# Altium schematic symbol library OWMR.SchLib: 18 symbols
Pins are listed as number, name and electrical type; pins without a type are passive.

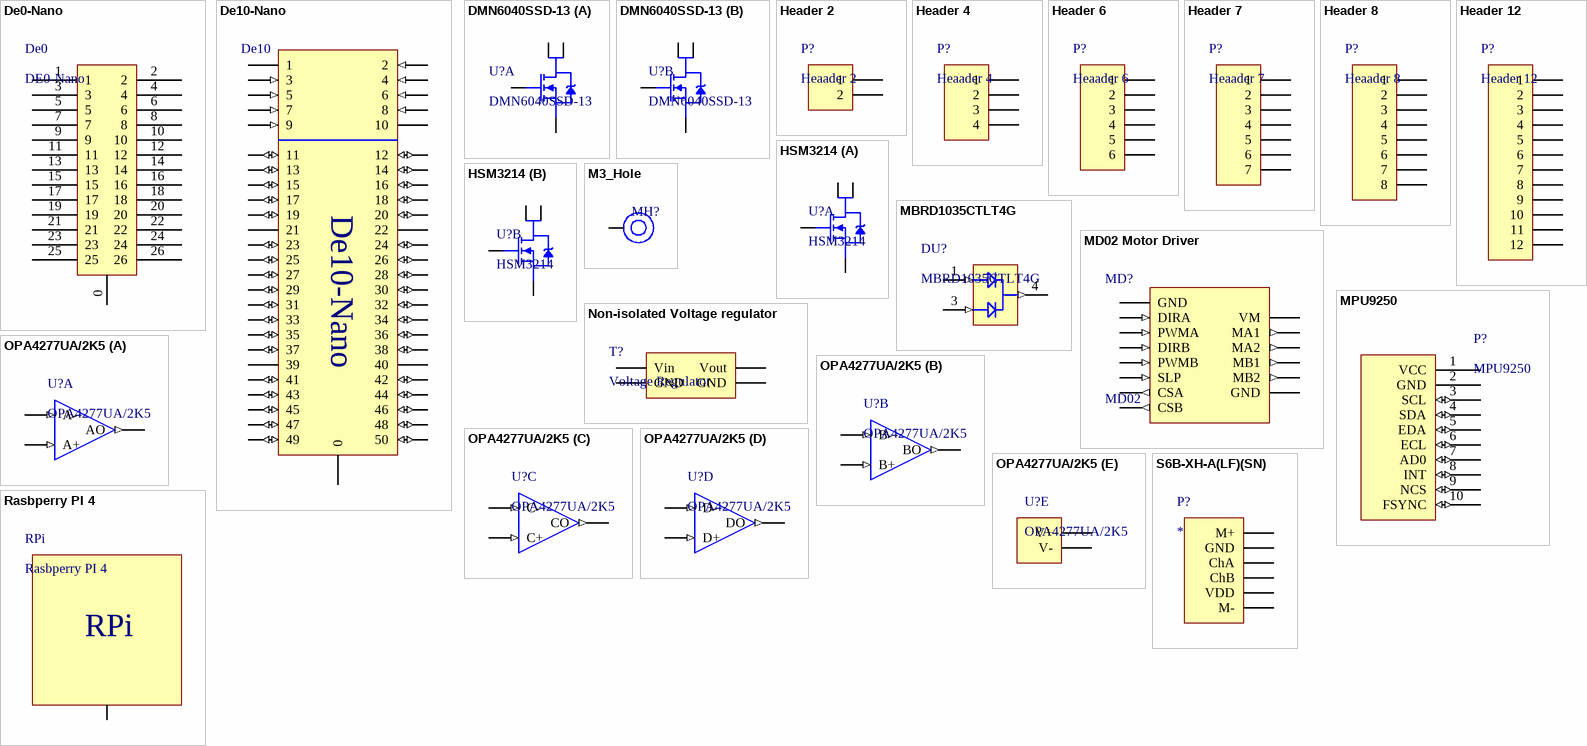
[diagram p0: symbols De0-Nano to S6B-XH-A(LF)(SN)]

## De0-Nano
designator De0, comment DE0-Nano
footprint DE0-Nano
pins: 0 "Screw Hole", 1, 2, 3, 4, 5, 6, 7, 8, 9, 10, 11, 12, 13, 14, 15, 16, 17, 18, 19, 20, 21, 22, 23, 24, 25, 26

## De10-Nano
designator De10
De10-Nano
footprint De10-Nano
pins: 0 (power), 1 (power), 2 (in), 3 (in), 4 (in), 5 (in), 6 (in), 7 (in), 8 (in), 9 (in), 10 (power), 11 (io), 12 (io), 13 (io), 14 (io), 15 (io), 16 (io), 17 (io), 18 (io), 19 (io), 20 (io), 21 (power), 22 (power), 23 (io), 24 (io), 25 (io), 26 (io), 27 (io), 28 (io), 29 (io), 30 (io), 31 (io), 32 (io), 33 (io), 34 (io), 35 (io), 36 (io), 37 (io), 38 (io), 39 (power), 40 (power), 41 (io), 42 (io), 43 (io), 44 (io), 45 (io), 46 (io), 47 (io), 48 (io), 49 (io), 50 (io)

## DMN6040SSD-13
designator U?
60V 5A 1.3W 40mΩ@10V,4.5A 3V@250μA 2 N-Channel SOIC-8_150mil  MOSFETs ROHS
footprint DMN6040SSD-13 (60V 5A 1.3W 40mΩ@10V,4.5A 3V@250μA 2 N-Channel SOIC-8_150mil MOSFETs ROHS)
part A pins: 1 S1, 2 G1, 5 D1, 6 D1
part B pins: 3 S2, 4 G2, 7 D2, 8 D2

## Header 2
designator P?, comment Heaader 2
KH-2.54FH-1X2P-H8.5 / 2.54mm 3A -40℃~+105℃ Straight 1x2P 8.5mm Top 2 1 Square Holes Plugin,P=2.54mm  Female Headers ROHS / ----- / KH-2.54PH180-1X2P-L11.5 / 3A Straight Square Pins 2.5mm 6mm -40℃~+105℃ 1 2 3mm 2.54mm Black 1x2P Plugin,P=2.54mm  Pin Headers ROHS
footprint KH-2.54FH-1X2P-H8.5 (1x2P Female Headers)
footprint KH-2.54FH-1X2P-H8.5 (Pad Linked) (Two Pad Linked, 1x2P Female Headers)
footprint KH-2.54PH180-1X2P-L11.5 (1x2P Pin Headers)
footprint KH-2.54PH180-1X2P-L11.5 (Pad Linked) (Two Pad linked, 1x2P Pin Headers)
pins: 1, 2

## Header 4
designator P?, comment Heaader 4
KH-2.54FH-1X4P-H8.5 / 2.54mm 3A -40℃~+105℃ Straight 1x4P 8.5mm Top 4 1 Square Holes Plugin,P=2.54mm  Female Headers ROHS / ----- / KH-2.54PH180-1X4P-L11.5 / 3A Straight Square Pins 2.5mm 6mm -40℃~+105℃ 1 4 3mm 2.54mm Black 1x4P Plugin,P=2.54mm  Pin Headers ROHS
footprint KH-2.54FH-1X4P-H8.5 (1x4P Female Headers)
footprint KH-2.54FH-1X4P-H8.5 (Pad Linked) (Two Pad Linked, 1x4P Female Headers)
footprint KH-2.54PH180-1X4P-L11.5 (1x4P Pin Headers)
footprint KH-2.54PH180-1X4P-L11.5 (Pad Linked) (Two Pad linked, 1x4P Pin Headers)
pins: 1, 2, 3, 4

## Header 6
designator P?, comment Heaader 6
KH-2.54FH-1X6P-H8.5 / 2.54mm 3A -40℃~+105℃ Straight 1x6P 8.5mm Top 6 1 Square Holes Plugin,P=2.54mm  Female Headers ROHS / ----- / KH-2.54PH180-1X6P-L11.5 / 3A Straight Square Pins 2.5mm 6mm -40℃~+105℃ 1 6 3mm 2.54mm Black 1x6P Plugin,P=2.54mm  Pin Headers ROHS
footprint KH-2.54FH-1X6P-H8.5 (1x6P Female Headers)
footprint KH-2.54FH-1X6P-H8.5 (Pad Linked) (Two Pad Linked, 1x6P Female Headers)
footprint KH-2.54PH180-1X6P-L11.5 (1x6P Pin Headers)
footprint KH-2.54PH180-1X6P-L11.5 (Pad Linked) (Two Pad linked, 1x6P Pin Headers)
pins: 1, 2, 3, 4, 5, 6

## Header 7
designator P?, comment Heaader 7
KH-2.54FH-1X7P-H8.5 / 2.54mm 3A -40℃~+105℃ Straight 1x7P 8.5mm Top 7 1 Square Holes Plugin,P=2.54mm  Female Headers ROHS / ----- / KH-2.54PH180-1X7P-L11.5 / 3A Straight Square Pins 2.5mm 6mm -40℃~+105℃ 1 7 3mm 2.54mm Black 1x7P Plugin,P=2.54mm  Pin Headers ROHS
footprint KH-2.54FH-1X7P-H8.5 (1x7P Female Headers)
footprint KH-2.54PH180-1X7P-L11.5 (1x7P Pin Headers)
pins: 1, 2, 3, 4, 5, 6, 7

## Header 8
designator P?, comment Heaader 8
KH-2.54FH-1X8P-H8.5 / 2.54mm 3A -40℃~+105℃ Straight 1x8P 8.5mm Top 8 1 Square Holes Plugin,P=2.54mm  Female Headers ROHS / ----- / KH-2.54PH180-1X8P-L11.5 / 3A Straight Square Pins 2.5mm 6mm -40℃~+105℃ 1 8 3mm 2.54mm Black 1x8P Plugin,P=2.54mm  Pin Headers ROHS
footprint KH-2.54FH-1X8P-H8.5 (1x8P Female Headers)
footprint KH-2.54PH180-1X8P-L11.5 (1x8P Pin Headers)
footprint KH-2.54FH-1X8P-H8.5 (Pad Linked) (Two Pad Linked, 1x8P Female Headers)
footprint KH-2.54PH180-1X8P-L11.5 (Pad Linked) (Two Pad linked, 1x8 Pin Headers)
pins: 1, 2, 3, 4, 5, 6, 7, 8

## Header 12
designator P?
KH-2.54FH-1X12P-H8.5 / 2.54mm 3A -40℃~+105℃ Straight 1x12P 8.5mm Top 12 1 Square Holes Plugin,P=2.54mm  Female Headers ROHS / ----- / KH-2.54PH180-1X8P-L11.5 / 3A Straight Square Pins 2.5mm 6mm -40℃~+105℃ 1 12 3mm 2.54mm Black 1x12P Plugin,P=2.54mm  Pin Headers ROHS
footprint KH-2.54FH-1X12P-H8.5 (1x12P Female Headers)
footprint KH-2.54PH180-1X12P-L11.5 (1x12P Pin Headers)
footprint KH-2.54PH180-1X12P-L11.5 (Pad Linked) (Two Pad Linked, 1x12P Pin Headers)
footprint KH-2.54FH-1X12P-H8.5 (Pad Linked) (Two Pad Linked, 1x12P Female Headers)
pins: 1, 2, 3, 4, 5, 6, 7, 8, 9, 10, 11, 12

## HSM3214
designator U?
30V 10A 12mΩ@10V,8A 1.5W 2.5V@250μA 2 N-Channel SOP-8  MOSFETs ROHS
footprint HSM3214 (30V 10A 12mΩ@10V,8A 1.5W 2.5V@250μA 2 N-Channel SOP-8  MOSFETs ROHS)
part A pins: 1 S1, 2 G1, 7 D1, 8 D1
part B pins: 3 S1, 4 G1, 5 D1, 6 D1

## M3_Hole
designator MH?, comment M3 Hole  (value not drawn)
footprint M3 Hole
pins: 1

## MBRD1035CTLT4G
designator DU?
35V 470mV@5A 5A TO-252-2(DPAK) Schottky Barrier Diodes (SBD) ROHS; buy_link: https://www.ruten.com.tw/item/show?21744290003226; datasheet: https://datasheet.ciiva.com/905/mbrd1035ctl-d-905952.pdf?src-supplier=Digi-Key
footprint MBRD1035CTLT4G (35V 5A 2Channel Diode IC)
pins: 1 (in), 3 (in), 4 (out)

## MD02 Motor Driver
designator MD?, comment MD02
MD02 17A 2 cheel motor driver; buy_link: https://www.ruten.com.tw/item/show?21811773783671
footprint MD02 (MD02_17A_Motor_Driver)
pins: 1 GND (power), 2 DIRA (in), 3 PWMA (in), 4 DIRB (in), 5 PWMB (in), 6 SLP (in), 7 CSA (out), 8 CSB (out), 9 VM (power), 10 MA1 (out), 11 MA2 (out), 12 MB1 (out), 13 MB2 (out), 14 GND

## MPU9250
designator P?
3 axis gyro, acceleration, magmetic
footprint MPU9250
pins: 1 VCC (power), 2 GND (power), 3 SCL (io), 4 SDA (io), 5 EDA (io), 6 ECL (io), 7 AD0 (io), 8 INT (io), 9 NCS (io), 10 FSYNC (io)

## Non-isolated Voltage regulator
designator T?, comment Voltage Regulator
footprint XL4015 Voltage Regulator Module (5A DC-DC Non-isolated voltage regulator module)
footprint Small Voltage regulator module (3A DC-DC Non-isolated voltage regulator module)
footprint XH-M401 Voltage Regulator Module (8A DC-DC Non-isolated voltage regulator module)
pins: 1 Vin (power), 2 GND (power), 3 Vout (power), 4 GND (power)

## OPA4277UA/2K5
designator U?
790μA 1MHz 4 4V~36V,±2V~18V 0.8 V/us General Purpose SOIC-14  Precision OpAmps ROHS
footprint OPA4277UA/2K5 (SOP-14_3.9x8.7x1.27P)
part A pins: 1 AO (out), 2 A- (in), 3 A+ (in)
part B pins: 5 B+ (in), 6 B- (in), 7 BO (out)
part C pins: 8 CO (out), 9 C- (in), 10 C+ (in)
part D pins: 12 D+ (in), 13 D- (in), 14 DO (out)
part E pins: 4 V+ (power), 11 V- (power)

## Rasbperry PI 4
designator RPi
footprint Raspberry Pi 4
pins: 1

## S6B-XH-A(LF)(SN)
designator P?
1x6P XH 1 2.5mm 6 Brass Plugin,P=2.5mm  Wire To Board / Wire To Wire Connector ROHS
footprint S6B-XH-A(LF)(SN) (XH Header-side 6P)
pins: 1 M+, 2 GND, 3 ChA, 4 ChB, 5 VDD, 6 M-